# EAGLE library part 1645РУ6У (library memory)
АЕHB.431220.179 ТУ 1645РУ6У - микросхема статического оперативного запоминающего устройства (СОЗУ) емкостью 16М (1М х 16 бит). Время выборки данных по адресу не более 10 нс. Производитель: ЗАО "ПКК Миландр", г. Зеленоград, Москва. Технические условия: АЕHB.431220.179 ТУ
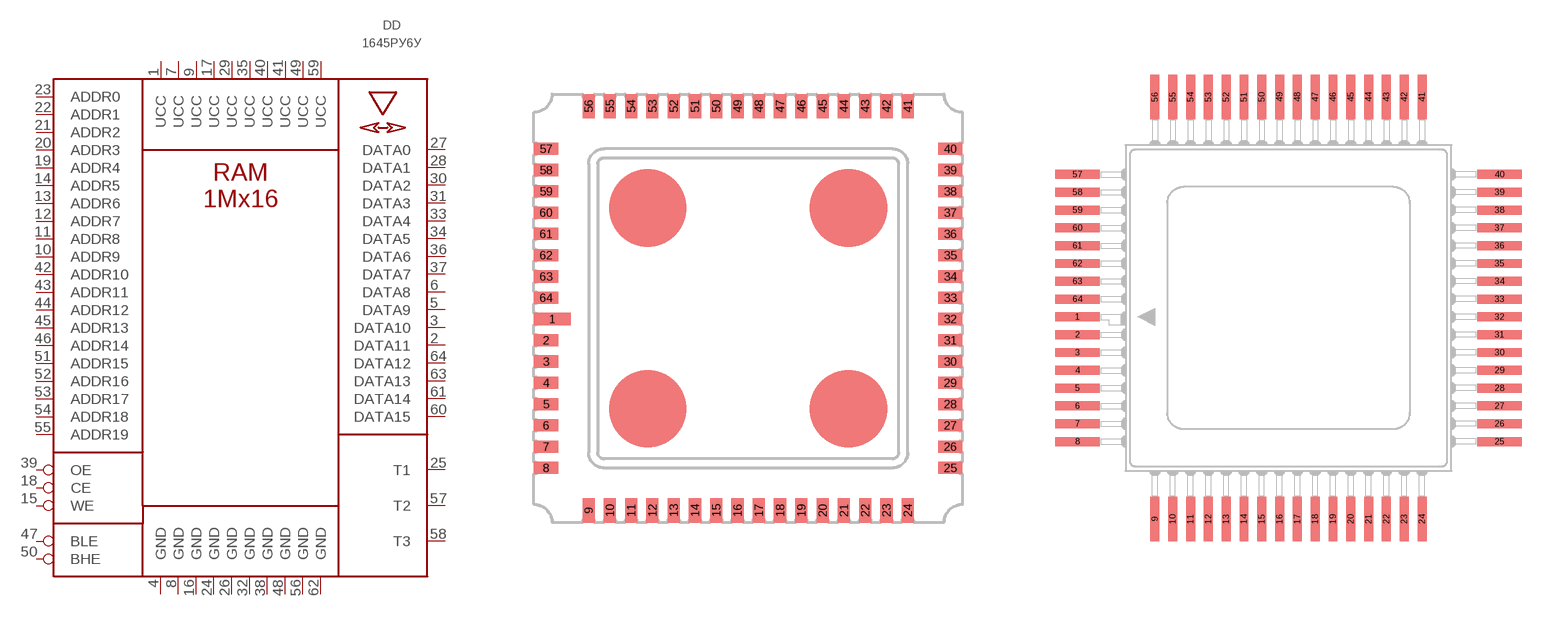
[diagram p2: symbol with the pads of 5153.64-2; footprints 5153.64-2, Н18.64-2В]

Designator prefix DD

## 1645РУ6У1645РУ6У1  [5153.64-2]
1  UCC  pwr
2  DATA11  out
3  DATA10  out
4  GND  pwr
5  DATA9  out
6  DATA8  out
7  UCC  pwr
8  GND  pwr
9  UCC  pwr
10  ADDR9  in
11  ADDR8  in
12  ADDR7  in
13  ADDR6  in
14  ADDR5  in
15  WE  in
16  GND  pwr
17  UCC  pwr
18  CE  in
19  ADDR4  in
20  ADDR3  in
21  ADDR2  in
22  ADDR1  in
23  ADDR0  in
24  GND  pwr
25  T1  nc
26  GND  pwr
27  DATA0  out
28  DATA1  out
29  UCC  pwr
30  DATA2  out
31  DATA3  out
32  GND  pwr
33  DATA4  out
34  DATA5  out
35  UCC  pwr
36  DATA6  out
37  DATA7  out
38  GND  pwr
39  OE  in
40  UCC  pwr
41  UCC  pwr
42  ADDR10  in
43  ADDR11  in
44  ADDR12  in
45  ADDR13  in
46  ADDR14  in
47  BLE  in
48  GND  pwr
49  UCC  pwr
50  BHE  in
51  ADDR15  in
52  ADDR16  in
53  ADDR17  in
54  ADDR18  in
55  ADDR19  in
56  GND  pwr
57  T2  nc
58  T3  nc
59  UCC  pwr
60  DATA15  out
61  DATA14  out
62  GND  pwr
63  DATA13  out
64  DATA12  out

## 1645РУ6У1645РУ6У  [Н18.64-2В]
Pads as for 5153.64-2

## Footprint 5153.64-2 (pad centres in mm)
smd 1.22 x 0.4: 1 -6.45,-0.35
smd 0.8 x 0.4: 2 -6.65,-1.05; 3 -6.65,-1.75; 4 -6.65,-2.45; 5 -6.65,-3.15; 6 -6.65,-3.85; 7 -6.65,-4.55; 8 -6.65,-5.25; 25 6.65,-5.25; 26 6.65,-4.55; 27 6.65,-3.85; 28 6.65,-3.15; 29 6.65,-2.45; 30 6.65,-1.75; 31 6.65,-1.05; 32 6.65,-0.35; 33 6.65,0.35; 34 6.65,1.05; 35 6.65,1.75; 36 6.65,2.45; 37 6.65,3.15; 38 6.65,3.85; 39 6.65,4.55; 40 6.65,5.25; 57 -6.65,5.25; 58 -6.65,4.55; 59 -6.65,3.85; 60 -6.65,3.15; 61 -6.65,2.45; 62 -6.65,1.75; 63 -6.65,1.05; 64 -6.65,0.35
smd 0.4 x 0.8: 9 -5.25,-6.65; 10 -4.55,-6.65; 11 -3.85,-6.65; 12 -3.15,-6.65; 13 -2.45,-6.65; 14 -1.75,-6.65; 15 -1.05,-6.65; 16 -0.35,-6.65; 17 0.35,-6.65; 18 1.05,-6.65; 19 1.75,-6.65; 20 2.45,-6.65; 21 3.15,-6.65; 22 3.85,-6.65; 23 4.55,-6.65; 24 5.25,-6.65; 41 5.25,6.65; 42 4.55,6.65; 43 3.85,6.65; 44 3.15,6.65; 45 2.45,6.65; 46 1.75,6.65; 47 1.05,6.65; 48 0.35,6.65; 49 -0.35,6.65; 50 -1.05,6.65; 51 -1.75,6.65; 52 -2.45,6.65; 53 -3.15,6.65; 54 -3.85,6.65; 55 -4.55,6.65; 56 -5.25,6.65

## Footprint Н18.64-2В (pad centres in mm)
smd 2.5 x 0.5: 1 -11.85,-0.5; 2 -11.85,-1.5; 3 -11.85,-2.5; 4 -11.85,-3.5; 5 -11.85,-4.5; 6 -11.85,-5.5; 7 -11.85,-6.5; 8 -11.85,-7.5; 25 11.85,-7.5; 26 11.85,-6.5; 27 11.85,-5.5; 28 11.85,-4.5; 29 11.85,-3.5; 30 11.85,-2.5; 31 11.85,-1.5; 32 11.85,-0.5; 33 11.85,0.5; 34 11.85,1.5; 35 11.85,2.5; 36 11.85,3.5; 37 11.85,4.5; 38 11.85,5.5; 39 11.85,6.5; 40 11.85,7.5; 57 -11.85,7.5; 58 -11.85,6.5; 59 -11.85,5.5; 60 -11.85,4.5; 61 -11.85,3.5; 62 -11.85,2.5; 63 -11.85,1.5; 64 -11.85,0.5
smd 0.5 x 2.5: 9 -7.5,-11.85; 10 -6.5,-11.85; 11 -5.5,-11.85; 12 -4.5,-11.85; 13 -3.5,-11.85; 14 -2.5,-11.85; 15 -1.5,-11.85; 16 -0.5,-11.85; 17 0.5,-11.85; 18 1.5,-11.85; 19 2.5,-11.85; 20 3.5,-11.85; 21 4.5,-11.85; 22 5.5,-11.85; 23 6.5,-11.85; 24 7.5,-11.85; 41 7.5,11.85; 42 6.5,11.85; 43 5.5,11.85; 44 4.5,11.85; 45 3.5,11.85; 46 2.5,11.85; 47 1.5,11.85; 48 0.5,11.85; 49 -0.5,11.85; 50 -1.5,11.85; 51 -2.5,11.85; 52 -3.5,11.85; 53 -4.5,11.85; 54 -5.5,11.85; 55 -6.5,11.85; 56 -7.5,11.85